# Altium footprint library IC.PcbLib: 28 footprints (part 1 of 2)
Each footprint in its own frame and in the unit in brackets; x right, y up, seen from the top. Pads: shape width x height; smd on the part's side, far side on the other; paste and mask are expansions set on the pad; w line width, h text height; cw(c..) or ccw(c..) is an arc to the next point about the centre after c.
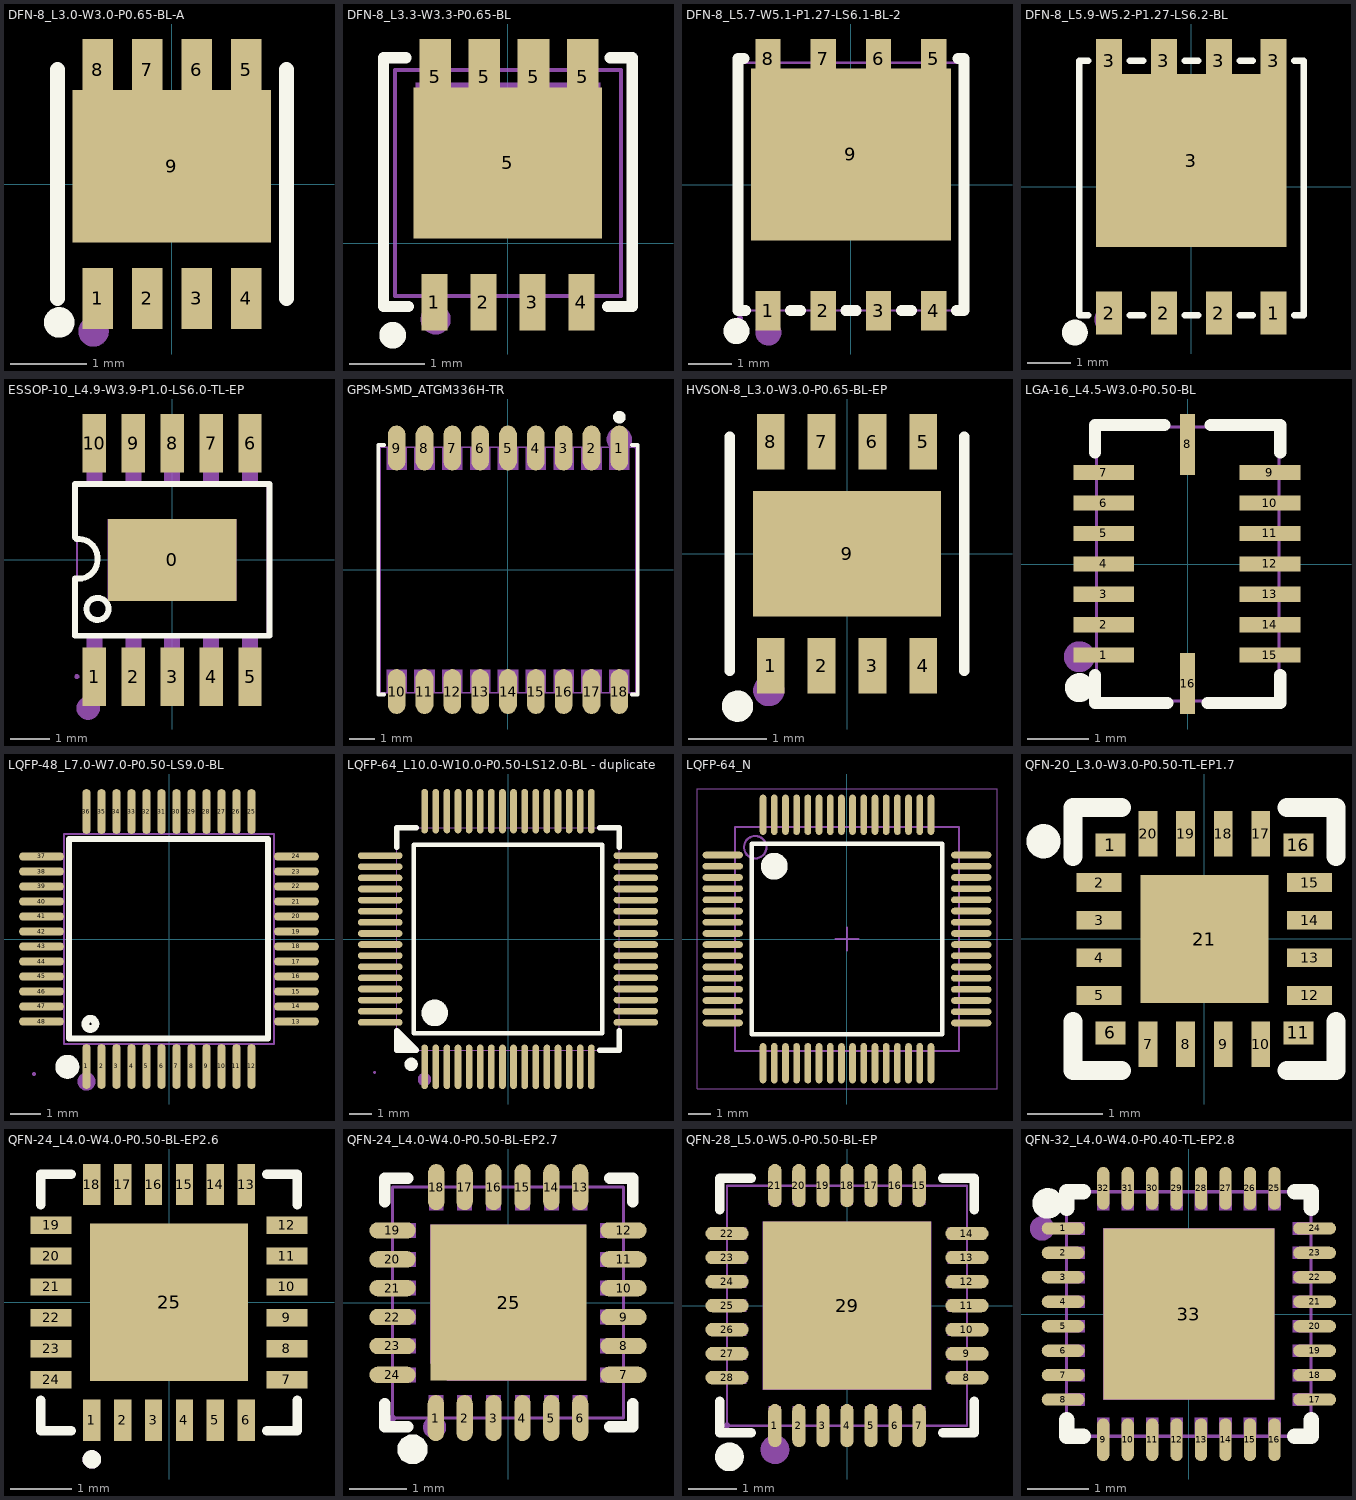
[diagram p0: the footprints below, top view; thin cyan lines are the x and y axes]

## DFN-8_L3.0-W3.0-P0.65-BL-A [mm]
pads (9):
  rect 0.4x0.8 smd: 1(-0.975,-1.5) 2(-0.325,-1.5) 3(0.325,-1.5) 4(0.975,-1.5) 5(0.975,1.5) 6(0.325,1.5) 7(-0.325,1.5) 8(-0.975,1.5)
  rect 2.6x2 smd: 9(0,0.233)
Top Overlay:
  circle w0.2: c-1.477,-1.813 r0.1
  lines w0.2: -1.5,-1.5 -1.5,1.5 ; 1.5,-1.5 1.5,1.5
Top Paste:
  region: -1.176,-1.298 -1.176,-1.098 0.524,-1.098 0.524,-1.298
  region: -1.177,-1.097 0.524,-1.097 0.524,-1.902 0.125,-1.902 0.125,-1.296 -0.124,-1.296 -0.124,-1.899 -0.525,-1.899 -0.525,-1.296 -0.777,-1.296 -0.777,-1.899 -1.175,-1.899 -1.175,-1.329
  region: 1.3,-0.767 -1.3,-0.767 -1.3,1.233 -1.175,1.233 -1.175,1.9 -0.775,1.9 -0.775,1.233 -0.525,1.233 -0.525,1.9 -0.126,1.9 -0.126,1.233 0.125,1.233 0.125,1.9 0.525,1.9 0.525,1.233 0.775,1.233 0.775,1.9 1.175,1.9 1.175,1.233 1.3,1.233 1.3,1.223
  region: 1.175,-1.9 0.775,-1.9 0.775,-1.1 1.175,-1.1
Top Solder:
  region: -1.176,-1.298 -1.176,-1.098 0.524,-1.098 0.524,-1.298
Mechanical 15:
  circle w0.2: c-1.027,-1.931 r0.1
3D body "User Library-DFN_3x3_8L_EP2_P.STEP": height 0.81, standoff 0, extent -1.55,-1.6 1.55,1.6

## DFN-8_L3.3-W3.3-P0.65-BL [mm]
pads (9):
  rect 0.35x0.75 smd paste+0 mask+0.05: 1(-0.975,-0.78) 2(-0.325,-0.78) 3(0.325,-0.78) 4(0.975,-0.78)
  rect 0.42x1 smd: 5(-0.965,2.21) 5(-0.313,2.21) 5(0.339,2.21) 5(0.991,2.21)
  rect 2.5x2 smd: 5(0,1.067)
Top Overlay:
  circle w0.254: c-1.53,-1.219 r0.05
  lines w0.1: -1.65,-0.838 -1.65,2.462 ; 1.65,-0.838 1.651,0.484 1.65,2.462
  lines w0.15: -1.353,2.462 -1.65,2.462 -1.65,-0.838 -1.324,-0.838 ; 1.324,-0.838 1.65,-0.838 1.65,2.462 1.357,2.462
Mechanical 6:
  circle w0.2: c-0.96,-1.009 r0.1
Mechanical 15:
  region: -1.44,-0.838 -1.44,-0.813 -1.475,-0.778 -1.525,-0.778 -1.56,-0.813 -1.56,-0.838 -1.56,-0.863 -1.525,-0.898 -1.475,-0.898 -1.44,-0.863
  region: -1.222,0.201 -1.222,2.129 -1.125,2.129 -1.125,2.43 -0.825,2.43 -0.825,2.129 -0.475,2.129 -0.475,2.43 -0.175,2.43 -0.175,2.129 0.175,2.129 0.175,2.43 0.475,2.43 0.475,2.129 0.825,2.129 0.825,2.43 1.125,2.43 1.125,2.129 1.226,2.129 1.226,0.201 -1.222,0.201
  region: -1.125,-0.438 -0.825,-0.438 -0.825,-0.838 -1.125,-0.838
  region: -0.475,-0.438 -0.175,-0.438 -0.175,-0.838 -0.475,-0.838
  region: 0.175,-0.438 0.475,-0.438 0.475,-0.838 0.175,-0.838
  region: 0.825,-0.438 1.125,-0.438 1.125,-0.838 0.825,-0.838
  lines w0.051: -1.5,-0.7 -1.5,2.3 1.5,2.3 1.5,-0.7 -1.5,-0.7
3D body "User Library-DFN_3x3_8L_EP2_P.STEP": height 0.81, standoff 0, extent -1.55,-0.787 1.55,2.413

## DFN-8_L5.7-W5.1-P1.27-LS6.1-BL-2 [mm]
pads (9):
  rect 0.58x0.9 smd paste-100 mask+0.051: 1(-1.905,-2.9) 2(-0.635,-2.9) 3(0.635,-2.9) 4(1.905,-2.9) 5(1.905,2.9) 6(0.635,2.9) 7(-0.635,2.9) 8(-1.905,2.9)
  rect 4.6x3.95 smd paste-100 mask+0.051: 9(0,0.695)
Top Overlay:
  circle w0.3: c-2.632,-3.367 r0.15
  lines w0.25: -2.6,-0.897 -2.6,-2.895 -2.429,-2.895 ; -2.6,-0.032 -2.6,2.905 -2.463,2.905 -2.5,2.905 ; -1.391,-2.895 -1.159,-2.895 ; -0.121,-2.895 0.121,-2.895 ; 1.159,-2.895 1.391,-2.895 ; 2.429,-2.895 2.6,-2.895 2.6,-0.897 ; 2.5,2.905 2.463,2.905 2.6,2.905 2.6,-0.032
  lines w0.254: -2.6,-0.897 -2.6,-0.032 ; 2.6,-1.169 2.6,-0.032
Top Paste:
  region: -2.3,-1.28 -2.3,2.67 -2.195,2.67 -2.195,3.35 -1.615,3.35 -1.615,2.67 -0.925,2.67 -0.925,3.35 -0.345,3.35 -0.345,2.67 0.345,2.67 0.345,3.35 0.925,3.35 0.925,2.67 1.615,2.67 1.615,3.35 2.195,3.35 2.195,2.67 2.3,2.67 2.3,-1.28 -2.3,-1.28
  region: -1.615,-2.45 -1.615,-3.35 -2.195,-3.35 -2.195,-2.45
  region: -0.345,-2.45 -0.345,-3.35 -0.925,-3.35 -0.925,-2.45
  region: 0.925,-2.45 0.925,-3.35 0.345,-3.35 0.345,-2.45
  region: 2.195,-2.45 2.195,-3.35 1.615,-3.35 1.615,-2.45
Bottom Paste:
  region: -1.877,2.272 -1.877,-0.882 1.877,-0.882 1.877,2.272
Mechanical 6:
  circle w0.3: c-1.9,-3.4 r0.15
Mechanical 15:
  region: -2.105,2.98 -1.705,2.98 -1.705,2.43 -2.105,2.43
  region: -0.835,2.98 -0.435,2.98 -0.435,2.43 -0.835,2.43
  region: 0.435,2.98 0.835,2.98 0.835,2.43 0.435,2.43
  region: 1.705,2.98 2.105,2.98 2.105,2.43 1.705,2.43
  region: -2.1,2.545 2.1,2.545 2.1,-1.155 -2.1,-1.155
  region: -1.705,-3.07 -2.105,-3.07 -2.105,-2.52 -1.705,-2.52
  region: -0.435,-3.07 -0.835,-3.07 -0.835,-2.52 -0.435,-2.52
  region: 0.835,-3.07 0.435,-3.07 0.435,-2.52 0.835,-2.52
  region: 2.105,-3.07 1.705,-3.07 1.705,-2.52 2.105,-2.52
  region: -2.49,-3.07 -2.49,-3.045 -2.525,-3.01 -2.575,-3.01 -2.61,-3.045 -2.61,-3.07 -2.61,-3.095 -2.575,-3.13 -2.525,-3.13 -2.49,-3.095
  lines w0.051: -2.55,-2.895 2.55,-2.895 2.55,2.805 -2.55,2.805 -2.55,-2.895
3D body "User Library-DFN5x6_SO8FL.STEP": height 1.13, standoff 0, extent -2.6,-3.094 2.55,3.056

## DFN-8_L5.9-W5.2-P1.27-LS6.2-BL [mm]
pads (9):
  rect 0.6x1 smd: 1(1.905,-2.925) 2(-1.905,-2.925) 2(-0.635,-2.925) 2(0.635,-2.925) 3(-1.905,2.925) 3(-0.635,2.925) 3(0.635,2.925) 3(1.905,2.925)
  rect 4.41x4 smd: 3(0,0.61)
Top Overlay:
  circle w0.3: c-2.7,-3.375 r0.15
  lines w0.152: -2.385,-2.975 -2.6,-2.975 -2.6,2.925 -2.385,2.925 ; -1.425,-2.975 -1.115,-2.975 ; -1.425,2.925 -1.115,2.925 ; -0.155,-2.975 0.155,-2.975 ; -0.155,2.925 0.155,2.925 ; 1.115,-2.975 1.425,-2.975 ; 1.115,2.925 1.425,2.925 ; 2.385,-2.975 2.6,-2.975 2.6,2.925 2.385,2.925
Top Paste:
  region: -2.205,-3.425 -1.605,-3.425 -1.605,-2.425 -2.205,-2.425
  region: -0.935,-3.425 -0.335,-3.425 -0.335,-2.425 -0.935,-2.425
  region: 0.335,-3.425 0.935,-3.425 0.935,-2.425 0.335,-2.425
  region: 1.605,-3.425 2.205,-3.425 2.205,-2.425 1.605,-2.425
  region: 2.205,3.425 1.605,3.425 1.605,2.61 0.935,2.61 0.935,3.425 0.335,3.425 0.335,2.61 -0.335,2.61 -0.335,3.425 -0.935,3.425 -0.935,2.61 -1.605,2.61 -1.605,3.425 -2.205,3.425 -2.205,-1.39 2.205,-1.39
Mechanical 15:
  circle w0.3: c-1.95,-3.075 r0.15
3D body "User Library-DFN5x6_SO8FL.STEP": height 1.13, standoff 0, extent -2.575,-3.094 2.575,3.056

## ESSOP-10_L4.9-W3.9-P1.0-LS6.0-TL-EP [mm]
pads (11):
  rect 3.3x2.1 smd paste+0 mask+0.05: 0(0,0)
  rect 0.6x1.5 smd paste+0 mask+0.05: 1(-2,-3) 2(-1,-3) 3(0,-3) 4(1,-3) 5(2,-3) 6(2,3) 7(1,3) 8(0,3) 9(-1,3) 10(-2,3)
Top Overlay:
  circle w0.15: c-1.92,-1.26 r0.284
  lines w0.15: -2.5,-1.95 -2.5,-0.48 -2.4,-0.48 ccw(c-2.4,0) -1.92,0 ccw(c-2.416,0.044) -2.46,0.54 -2.5,0.58 -2.5,0.82 -2.5,1.95 2.5,1.95 2.5,-1.95 -2.5,-1.95
Mechanical 6:
  circle w0.3: c-2.159,-3.81 r0.15
Mechanical 15:
  region: -2.39,-3 -2.39,-2.975 -2.425,-2.94 -2.475,-2.94 -2.51,-2.975 -2.51,-3 -2.51,-3.025 -2.475,-3.06 -2.425,-3.06 -2.39,-3.025
  region: -2.2,-2.39 -2.2,-1.94 -1.8,-1.94 -1.8,-2.39
  region: -2.2,-3 -2.2,-2.38 -1.8,-2.38 -1.8,-3
  region: -1.2,-2.39 -1.2,-1.94 -0.8,-1.94 -0.8,-2.39
  region: -1.2,-3 -1.2,-2.38 -0.8,-2.38 -0.8,-3
  region: -0.2,-2.39 -0.2,-1.94 0.2,-1.94 0.2,-2.39
  region: -0.2,-3 -0.2,-2.38 0.2,-2.38 0.2,-3
  region: 0.8,-2.39 0.8,-1.94 1.2,-1.94 1.2,-2.39
  region: 0.8,-3 0.8,-2.38 1.2,-2.38 1.2,-3
  region: 1.8,-2.39 1.8,-1.94 2.2,-1.94 2.2,-2.39
  region: 1.8,-3 1.8,-2.38 2.2,-2.38 2.2,-3
  region: 1.8,1.94 1.8,2.39 2.2,2.39 2.2,1.94
  region: 1.8,2.38 1.8,3 2.2,3 2.2,2.38
  region: 0.8,1.94 0.8,2.39 1.2,2.39 1.2,1.94
  region: 0.8,2.38 0.8,3 1.2,3 1.2,2.38
  region: -0.2,1.94 -0.2,2.39 0.2,2.39 0.2,1.94
  region: -0.2,2.38 -0.2,3 0.2,3 0.2,2.38
  region: -1.2,1.94 -1.2,2.39 -0.8,2.39 -0.8,1.94
  region: -1.2,2.38 -1.2,3 -0.8,3 -0.8,2.38
  region: -2.2,1.94 -2.2,2.39 -1.8,2.39 -1.8,1.94
  region: -2.2,2.38 -2.2,3 -1.8,3 -1.8,2.38
  region: 1.65,-1.05 -1.65,-1.05 -1.65,1.05 1.65,1.05
  lines w0.051: -2.45,-1.95 -2.45,1.95 2.45,1.95 2.45,-1.95 -2.45,-1.95
3D body "User Library-ssop10.step": height 1.35, standoff -0.21, extent -2.45,-3 2.45,3

## GPSM-SMD_ATGM336H-TR [mm]
pads (18):
  oval 0.7x1.773 smd paste+0 mask+0.051: 1(4.4,4.811) 2(3.3,4.811) 3(2.2,4.811) 4(1.1,4.811) 5(0,4.811) 6(-1.1,4.811) 7(-2.2,4.811) 8(-3.3,4.811) 9(-4.4,4.811) 10(-4.4,-4.812) 11(-3.3,-4.812) 12(-2.2,-4.812) 13(-1.1,-4.812) 14(0,-4.812) 15(1.1,-4.812) 16(2.2,-4.812) 17(3.3,-4.812) 18(4.4,-4.812)
Top Overlay:
  circle w0.25: c4.4,6.03 r0.125
  lines w0.152: -4.898,-4.926 -5.126,-4.926 -5.126,4.926 -4.898,4.926 ; 4.898,-4.926 5.126,-4.926 5.126,4.926 4.898,4.926
Mechanical 6:
  circle w0.5: c4.4,5.15 r0.25
Mechanical 15:
  region: 4.8,3.95 4,3.95 4,4.85 4.8,4.85
  region: 3.7,3.95 2.9,3.95 2.9,4.85 3.7,4.85
  region: 2.6,3.95 1.8,3.95 1.8,4.85 2.6,4.85
  region: 1.5,3.95 0.7,3.95 0.7,4.85 1.5,4.85
  region: 0.4,3.95 -0.4,3.95 -0.4,4.85 0.4,4.85
  region: -0.7,3.95 -1.5,3.95 -1.5,4.85 -0.7,4.85
  region: -1.8,3.95 -2.6,3.95 -2.6,4.85 -1.8,4.85
  region: -2.9,3.95 -3.7,3.95 -3.7,4.85 -2.9,4.85
  region: -4,3.95 -4.8,3.95 -4.8,4.85 -4,4.85
  region: -4,-4.85 -4.8,-4.85 -4.8,-3.95 -4,-3.95
  region: -2.9,-4.85 -3.7,-4.85 -3.7,-3.95 -2.9,-3.95
  region: -1.8,-4.85 -2.6,-4.85 -2.6,-3.95 -1.8,-3.95
  region: -0.7,-4.85 -1.5,-4.85 -1.5,-3.95 -0.7,-3.95
  region: 0.4,-4.85 -0.4,-4.85 -0.4,-3.95 0.4,-3.95
  region: 1.5,-4.85 0.7,-4.85 0.7,-3.95 1.5,-3.95
  region: 2.6,-4.85 1.8,-4.85 1.8,-3.95 2.6,-3.95
  region: 3.7,-4.85 2.9,-4.85 2.9,-3.95 3.7,-3.95
  region: 4.8,-4.85 4,-4.85 4,-3.95 4.8,-3.95
  region: 5.11,4.85 5.11,4.875 5.075,4.91 5.025,4.91 4.99,4.875 4.99,4.85 4.99,4.825 5.025,4.79 5.075,4.79 5.11,4.825
  lines w0.051: -5.05,-4.85 -5.05,4.85 5.05,4.85 5.05,-4.85 -5.05,-4.85
3D body "U1.step": height 2.3, standoff 0, extent -5.05,-4.86 5.05,4.86

## HVSON-8_L3.0-W3.0-P0.65-BL-EP [mil]
pads (9):
  rect 14x28 smd: 1(-38.39,-56.4) 2(-12.79,-56.4) 3(12.79,-56.4) 4(38.39,-56.4) 5(38.39,56.4) 6(12.79,56.4) 7(-12.79,56.4) 8(-38.39,56.4)
  rect 94.49x62.99 smd: 9(0,0)
Top Overlay:
  circle w7.87: c-55.12,-76.77 r3.94
  lines w5.08: -59.05,-59.05 -59.05,59.05 ; 59.05,-59.05 59.05,59.05
Mechanical 15:
  circle w7.87: c-39.37,-68.9 r3.94
3D body "3D_PCB1_2022-07-08 v1.step": height 32.45, standoff -1.01, extent -59.05,-59 59.05,59.89

## LGA-16_L4.5-W3.0-P0.50-BL [mm]
pads (16):
  rect 1x0.25 smd paste+0 mask+0.051: 1(-1.378,-1.498) 2(-1.378,-0.998) 3(-1.378,-0.498) 4(-1.378,0.002) 5(-1.378,0.502) 6(-1.378,1.002) 7(-1.378,1.502) 9(1.352,1.502) 10(1.352,1.002) 11(1.352,0.502) 12(1.352,0.002) 13(1.352,-0.498) 14(1.352,-0.998) 15(1.352,-1.498)
  rect 0.25x1 smd paste+0 mask+0.051: 8(0,1.966) 16(0,-1.966)
Top Overlay:
  circle w0.254: c-1.778,-2.032 r0.112
  lines w0.2: -1.524,-1.827 -1.524,-2.286 -0.329,-2.286 ; -1.524,1.831 -1.524,2.159 -1.524,2.286 -0.381,2.286 ; 0.329,-2.286 1.524,-2.286 1.524,-1.827 ; 0.381,2.286 1.524,2.286 1.524,1.831
Mechanical 6:
  circle w0.254: c-1.778,-1.524 r0.127
Mechanical 15:
  region: -1.44,-2.25 -1.44,-2.225 -1.475,-2.19 -1.525,-2.19 -1.56,-2.225 -1.56,-2.25 -1.56,-2.275 -1.525,-2.31 -1.475,-2.31 -1.44,-2.275
  region: -0.9,-1.398 -0.9,-1.598 -1.4,-1.598 -1.4,-1.398
  region: -0.9,-0.898 -0.9,-1.098 -1.4,-1.098 -1.4,-0.898
  region: -0.9,-0.398 -0.9,-0.598 -1.4,-0.598 -1.4,-0.398
  region: -0.9,0.102 -0.9,-0.098 -1.4,-0.098 -1.4,0.102
  region: -0.9,0.602 -0.9,0.402 -1.4,0.402 -1.4,0.602
  region: -0.9,1.102 -0.9,0.902 -1.4,0.902 -1.4,1.102
  region: -0.9,1.602 -0.9,1.402 -1.4,1.402 -1.4,1.602
  region: 0.1,1.65 -0.1,1.65 -0.1,2.15 0.1,2.15
  region: 0.9,1.402 0.9,1.602 1.4,1.602 1.4,1.402
  region: 0.9,0.902 0.9,1.102 1.4,1.102 1.4,0.902
  region: 0.9,0.402 0.9,0.602 1.4,0.602 1.4,0.402
  region: 0.9,-0.098 0.9,0.102 1.4,0.102 1.4,-0.098
  region: 0.9,-0.598 0.9,-0.398 1.4,-0.398 1.4,-0.598
  region: 0.9,-1.098 0.9,-0.898 1.4,-0.898 1.4,-1.098
  region: 0.9,-1.598 0.9,-1.398 1.4,-1.398 1.4,-1.598
  region: -0.1,-1.65 0.1,-1.65 0.1,-2.15 -0.1,-2.15
  lines w0.051: -1.5,-2.25 -1.5,2.25 1.5,2.25 1.5,-2.25 -1.5,-2.25
3D body "User Library-LGA-16_l45w30h095.step": height 0.95, standoff -0.01, extent -1.5,-2.25 1.5,2.25

## LQFP-48_L7.0-W7.0-P0.50-LS9.0-BL [mm]
pads (48):
  oval 0.27x1.5 smd mask+0.05: 1(-2.75,-4.25) 2(-2.25,-4.25) 3(-1.75,-4.25) 4(-1.25,-4.25) 5(-0.75,-4.25) 6(-0.25,-4.25) 7(0.25,-4.25) 8(0.75,-4.25) 9(1.25,-4.25) 10(1.75,-4.25) 11(2.25,-4.25) 12(2.75,-4.25) 25(2.75,4.25) 26(2.25,4.25) 27(1.75,4.25) 28(1.25,4.25) 29(0.75,4.25) 30(0.25,4.25) 31(-0.25,4.25) 32(-0.75,4.25) 33(-1.25,4.25) 34(-1.75,4.25) 35(-2.25,4.25) 36(-2.75,4.25)
  oval 1.5x0.27 smd mask+0.05: 13(4.25,-2.75) 14(4.25,-2.25) 15(4.25,-1.75) 16(4.25,-1.25) 17(4.25,-0.75) 18(4.25,-0.25) 19(4.25,0.25) 20(4.25,0.75) 21(4.25,1.25) 22(4.25,1.75) 23(4.25,2.25) 24(4.25,2.75) 37(-4.25,2.75) 38(-4.25,2.25) 39(-4.25,1.75) 40(-4.25,1.25) 41(-4.25,0.75) 42(-4.25,0.25) 43(-4.25,-0.25) 44(-4.25,-0.75) 45(-4.25,-1.25) 46(-4.25,-1.75) 47(-4.25,-2.25) 48(-4.25,-2.75)
Top Overlay:
  circle w0.254: c-2.62,-2.83 r0.17
  lines w0.2: -2.896,3.34 3.302,3.34 3.302,-3.315 -3.327,-3.315 -3.327,3.34 -2.565,3.34
  lines w0.4: -3.39,-4.06 ccw(c-3.389,-4.26) -3.387,-4.06
Mechanical 6:
  circle w0.3: c-2.75,-4.75 r0.15
Mechanical 15:
  drawing of 101 lines, arcs and shapes, not listed
3D body "User Library-LQFP48_Grid_0_5.STEP": height 1.6, standoff 0, extent -4.5,-4.5 4.5,4.5

## LQFP-64_L10.0-W10.0-P0.50-LS12.0-BL - duplicate [mm]
pads (64):
  oval 0.3x2 smd mask+0.051: 1(-3.75,-5.75) 2(-3.25,-5.75) 3(-2.75,-5.75) 4(-2.25,-5.75) 5(-1.75,-5.75) 6(-1.25,-5.75) 7(-0.75,-5.75) 8(-0.25,-5.75) 9(0.25,-5.75) 10(0.75,-5.75) 11(1.25,-5.75) 12(1.75,-5.75) 13(2.25,-5.75) 14(2.75,-5.75) 15(3.25,-5.75) 16(3.75,-5.75) 33(3.75,5.75) 34(3.25,5.75) 35(2.75,5.75) 36(2.25,5.75) 37(1.75,5.75) 38(1.25,5.75) 39(0.75,5.75) 40(0.25,5.75) 41(-0.25,5.75) 42(-0.75,5.75) 43(-1.25,5.75) 44(-1.75,5.75) 45(-2.25,5.75) 46(-2.75,5.75) 47(-3.25,5.75) 48(-3.75,5.75)
  oval 2x0.3 smd mask+0.051: 17(5.75,-3.75) 18(5.75,-3.25) 19(5.75,-2.75) 20(5.75,-2.25) 21(5.75,-1.75) 22(5.75,-1.25) 23(5.75,-0.75) 24(5.75,-0.25) 25(5.75,0.25) 26(5.75,0.75) 27(5.75,1.25) 28(5.75,1.75) 29(5.75,2.25) 30(5.75,2.75) 31(5.75,3.25) 32(5.75,3.75) 49(-5.75,3.75) 50(-5.75,3.25) 51(-5.75,2.75) 52(-5.75,2.25) 53(-5.75,1.75) 54(-5.75,1.25) 55(-5.75,0.75) 56(-5.75,0.25) 57(-5.75,-0.25) 58(-5.75,-0.75) 59(-5.75,-1.25) 60(-5.75,-1.75) 61(-5.75,-2.25) 62(-5.75,-2.75) 63(-5.75,-3.25) 64(-5.75,-3.75)
Top Overlay:
  region: -4.131,-5 -5,-4.131 -5,-5
  lines w0.2: -4.25,-4.25 -4.25,4.25 4.25,4.25 4.25,-4.25 -4.25,-4.25
  lines w0.254: -5,4.131 -5,5 -4.131,5 ; 4.131,-5 5,-5 5,-4.131 ; 4.131,5 5,5 5,4.131 ; -5,-4.131 -5,-4.131 ; -5,-4.131 -4.131,-5 -5,-5 -5,-4.131
  lines w0.3: -4.361,-5.49 ccw(c-4.36,-5.64) -4.359,-5.49
  lines w0.6: -3.299,-3.025 ccw(c-3.297,-3.325) -3.294,-3.025
Mechanical 6:
  circle w0.3: c-3.76,-6.32 r0.15
Mechanical 15:
  drawing of 133 lines, arcs and shapes, not listed
3D body "User Library-LQFP64-2.STEP": height 1.62, standoff -0.01, extent -6.072,-6.072 6.072,6.072

## LQFP-64_N [mm] "Thin QFP, 64-Leads, Body 10x10mm, Pitch 0.5mm, IPC Medium Density"
height 1.6
pads (64):
  oval 1.8x0.3 smd: 1(-5.55,3.75) 2(-5.55,3.25) 3(-5.55,2.75) 4(-5.55,2.25) 5(-5.55,1.75) 6(-5.55,1.25) 7(-5.55,0.75) 8(-5.55,0.25) 9(-5.55,-0.25) 10(-5.55,-0.75) 11(-5.55,-1.25) 12(-5.55,-1.75) 13(-5.55,-2.25) 14(-5.55,-2.75) 15(-5.55,-3.25) 16(-5.55,-3.75) 33(5.55,-3.75) 34(5.55,-3.25) 35(5.55,-2.75) 36(5.55,-2.25) 37(5.55,-1.75) 38(5.55,-1.25) 39(5.55,-0.75) 40(5.55,-0.25) 41(5.55,0.25) 42(5.55,0.75) 43(5.55,1.25) 44(5.55,1.75) 45(5.55,2.25) 46(5.55,2.75) 47(5.55,3.25) 48(5.55,3.75)
  oval 0.3x1.8 smd: 17(-3.75,-5.55) 18(-3.25,-5.55) 19(-2.75,-5.55) 20(-2.25,-5.55) 21(-1.75,-5.55) 22(-1.25,-5.55) 23(-0.75,-5.55) 24(-0.25,-5.55) 25(0.25,-5.55) 26(0.75,-5.55) 27(1.25,-5.55) 28(1.75,-5.55) 29(2.25,-5.55) 30(2.75,-5.55) 31(3.25,-5.55) 32(3.75,-5.55) 49(3.75,5.55) 50(3.25,5.55) 51(2.75,5.55) 52(2.25,5.55) 53(1.75,5.55) 54(1.25,5.55) 55(0.75,5.55) 56(0.25,5.55) 57(-0.25,5.55) 58(-0.75,5.55) 59(-1.25,5.55) 60(-1.75,5.55) 61(-2.25,5.55) 62(-2.75,5.55) 63(-3.25,5.55) 64(-3.75,5.55)
Top Overlay:
  circle w0.6: c-3.25,3.25 r0.3
  lines w0.2: -4.25,-4.25 4.25,-4.25 4.25,4.25 -4.25,4.25 -4.25,-4.25
Mechanical 13:
  circle w0.1: c-4.1,4.1 r0.5
  lines w0.1: -5,-5 5,-5 5,5 -5,5 -5,-5
Mechanical 15:
  lines w0.05: -6.7,-6.7 6.7,-6.7 6.7,6.7 -6.7,6.7 -6.7,-6.7
  lines w0.1: -0.5,0 0.5,0 ; 0,-0.5 0,0.5
3D body "PCB1.stp": height 1.6, standoff 0.04, extent -5.991,-5.991 5.984,5.984

## QFN-20_L3.0-W3.0-P0.50-TL-EP1.7 [mm]
pads (21):
  rect 0.4x0.3 smd: 1(-1.25,1.25) 6(-1.25,-1.25) 11(1.25,-1.25) 16(1.25,1.25)
  rect 0.6x0.25 smd: 2(-1.4,0.75) 3(-1.4,0.25) 4(-1.4,-0.25) 5(-1.4,-0.75) 12(1.4,-0.75) 13(1.4,-0.25) 14(1.4,0.25) 15(1.4,0.75)
  rect 0.25x0.6 smd: 7(-0.75,-1.4) 8(-0.25,-1.4) 9(0.25,-1.4) 10(0.75,-1.4) 17(0.75,1.4) 18(0.25,1.4) 19(-0.25,1.4) 20(-0.75,1.4)
  rect 1.7x1.7 smd: 21(0,0)
Top Overlay:
  circle w0.254: c-2.14,1.3 r0.1
  lines w0.254: -1.75,-1.101 -1.75,-1.75 -1.101,-1.75 ; -1.75,1.101 -1.75,1.716 ; -1.75,1.75 -1.101,1.75 ; 1.101,-1.75 1.75,-1.75 1.75,-1.101 ; 1.101,1.75 1.75,1.75 1.75,1.101
3D body "User Library-QFN-20.STEP": height 0.62, standoff -0.08, extent -1.5,-1.5 1.5,1.5

## QFN-24_L4.0-W4.0-P0.50-BL-EP2.6 [mm]
pads (25):
  rect 0.28x0.665 smd: 1(-1.25,-1.907) 2(-0.75,-1.907) 3(-0.25,-1.907) 4(0.25,-1.907) 5(0.75,-1.907) 6(1.25,-1.907) 13(1.25,1.907) 14(0.75,1.907) 15(0.25,1.907) 16(-0.25,1.907) 17(-0.75,1.907) 18(-1.25,1.907)
  rect 0.665x0.28 smd: 7(1.907,-1.25) 8(1.907,-0.75) 9(1.907,-0.25) 10(1.907,0.25) 11(1.907,0.75) 12(1.907,1.25) 19(-1.907,1.25) 20(-1.907,0.75) 21(-1.907,0.25) 22(-1.907,-0.25) 23(-1.907,-0.75) 24(-1.907,-1.25)
  rect 2.55x2.55 smd: 25(0,0)
Top Overlay:
  circle w0.15: c-1.25,-2.54 r0.075
  lines w0.152: -2.076,-1.58 -2.076,-2.076 -1.58,-2.076 ; -2.076,1.58 -2.076,2.076 -1.58,2.076 ; 1.58,-2.076 2.076,-2.076 2.076,-1.58 ; 1.58,2.076 2.076,2.076 2.076,1.58
Top Paste:
  region: -1.575,-1.39 -1.575,-1.11 -2.24,-1.11 -2.24,-1.39
  region: -1.575,-0.89 -1.575,-0.61 -2.24,-0.61 -2.24,-0.89
  region: -1.575,-0.39 -1.575,-0.11 -2.24,-0.11 -2.24,-0.39
  region: -1.575,0.11 -1.575,0.39 -2.24,0.39 -2.24,0.11
  region: -1.575,0.61 -1.575,0.89 -2.24,0.89 -2.24,0.61
  region: -1.575,1.11 -1.575,1.39 -2.24,1.39 -2.24,1.11
  region: -1.39,2.24 -1.39,1.575 -1.11,1.575 -1.11,2.24
  region: -0.89,2.24 -0.89,1.575 -0.61,1.575 -0.61,2.24
  region: -0.39,2.24 -0.39,1.575 -0.11,1.575 -0.11,2.24
  region: 0.11,2.24 0.11,1.575 0.39,1.575 0.39,2.24
  region: 0.61,2.24 0.61,1.575 0.89,1.575 0.89,2.24
  region: 1.11,2.24 1.11,1.575 1.39,1.575 1.39,2.24
  region: 2.24,1.11 2.24,1.39 1.575,1.39 1.575,1.11
  region: 2.24,0.61 2.24,0.89 1.575,0.89 1.575,0.61
  region: 2.24,0.11 2.24,0.39 1.575,0.39 1.575,0.11
  region: 2.24,-0.39 2.24,-0.11 1.575,-0.11 1.575,-0.39
  region: 2.24,-0.89 2.24,-0.61 1.575,-0.61 1.575,-0.89
  region: 2.24,-1.39 2.24,-1.11 1.575,-1.11 1.575,-1.39
  region: 1.11,-2.24 1.11,-1.575 1.39,-1.575 1.39,-2.24
  region: 0.61,-2.24 0.61,-1.575 0.89,-1.575 0.89,-2.24
  region: 0.11,-2.24 0.11,-1.575 0.39,-1.575 0.39,-2.24
  region: -0.39,-2.24 -0.39,-1.575 -0.11,-1.575 -0.11,-2.24
  region: -0.89,-2.24 -0.89,-1.575 -0.61,-1.575 -0.61,-2.24
  region: -1.39,-2.24 -1.39,-1.575 -1.11,-1.575 -1.11,-2.24
  region: -1.02,1.02 1.02,1.02 1.02,-1.02 -1.02,-1.02
Mechanical 15:
  circle w0.15: c-1.25,-2.54 r0.075
3D body "User Library-QFN 24 4x4.step": height -0.41, standoff -1.31, extent -2.002,-2.002 2.002,2.002

## QFN-24_L4.0-W4.0-P0.50-BL-EP2.7 [mm]
pads (25):
  oval 0.28x0.8 smd mask+0.05: 1(-1.25,-2) 2(-0.75,-2) 3(-0.25,-2) 4(0.25,-2) 5(0.75,-2) 6(1.25,-2) 13(1.25,2) 14(0.75,2) 15(0.25,2) 16(-0.25,2) 17(-0.75,2) 18(-1.242,2)
  oval 0.8x0.28 smd mask+0.05: 7(2,-1.25) 8(2,-0.75) 9(2,-0.25) 10(2,0.25) 11(2,0.75) 12(2,1.25) 19(-2,1.25) 20(-2,0.75) 21(-2,0.25) 22(-2,-0.25) 23(-2,-0.75) 24(-2,-1.25)
  rect 2.7x2.7 smd mask+0.05: 25(0.012,0)
Top Overlay:
  region: -1.397,-2.539 -1.397,-2.471 -1.466,-2.353 -1.584,-2.286 -1.72,-2.286 -1.837,-2.354 -1.905,-2.472 -1.905,-2.608 -1.837,-2.726 -1.72,-2.794 -1.584,-2.794 -1.466,-2.727 -1.397,-2.609 -1.397,-2.541
  lines w0.2: -2.138,-1.75 -2.138,-2.15 -1.738,-2.15 ; -2.138,1.75 -2.138,2.15 -1.738,2.15 ; 1.763,-2.15 2.163,-2.15 2.163,-1.75 ; 1.763,2.15 2.163,2.15 2.163,1.75
Top Paste:
  drawing of 25 lines, arcs and shapes, not listed
Mechanical 6:
  circle w0.2: c-1.27,-2.159 r0.1
Mechanical 15:
  region: -1.94,-2 -1.94,-1.975 -1.975,-1.94 -2.025,-1.94 -2.06,-1.975 -2.06,-2 -2.06,-2.025 -2.025,-2.06 -1.975,-2.06 -1.94,-2.025
  region: -1.35,-1.05 -1.35,1.35 1.35,1.35 1.35,-1.35 -1.05,-1.35
  region: -2,-1.375 -2,-1.125 -1.6,-1.125 -1.6,-1.375
  region: -2,-0.875 -2,-0.625 -1.6,-0.625 -1.6,-0.875
  region: -2,-0.375 -2,-0.125 -1.6,-0.125 -1.6,-0.375
  region: -2,0.125 -2,0.375 -1.6,0.375 -1.6,0.125
  region: -2,0.625 -2,0.875 -1.6,0.875 -1.6,0.625
  region: -2,1.125 -2,1.375 -1.6,1.375 -1.6,1.125
  region: -1.367,1.6 -1.367,2 -1.117,2 -1.117,1.6
  region: -0.875,1.6 -0.875,2 -0.625,2 -0.625,1.6
  region: -0.375,1.6 -0.375,2 -0.125,2 -0.125,1.6
  region: 0.125,1.6 0.125,2 0.375,2 0.375,1.6
  region: 0.625,1.6 0.625,2 0.875,2 0.875,1.6
  region: 1.125,1.6 1.125,2 1.375,2 1.375,1.6
  region: 1.6,1.125 1.6,1.375 2,1.375 2,1.125
  region: 1.6,0.625 1.6,0.875 2,0.875 2,0.625
  region: 1.6,0.125 1.6,0.375 2,0.375 2,0.125
  region: 1.6,-0.375 1.6,-0.125 2,-0.125 2,-0.375
  region: 1.6,-0.875 1.6,-0.625 2,-0.625 2,-0.875
  region: 1.6,-1.375 1.6,-1.125 2,-1.125 2,-1.375
  region: 1.125,-2 1.125,-1.6 1.375,-1.6 1.375,-2
  region: 0.625,-2 0.625,-1.6 0.875,-1.6 0.875,-2
  region: 0.125,-2 0.125,-1.6 0.375,-1.6 0.375,-2
  region: -0.375,-2 -0.375,-1.6 -0.125,-1.6 -0.125,-2
  region: -0.875,-2 -0.875,-1.6 -0.625,-1.6 -0.625,-2
  region: -1.375,-2 -1.375,-1.6 -1.125,-1.6 -1.125,-2
  lines w0.051: -2,-2 -2,2 2,2 2,-2 -2,-2
3D body "User Library-mpu-6050_qfn-24.step": height 0.88, standoff -0.02, extent -2.013,-2.013 2.027,2.027

## QFN-28_L5.0-W5.0-P0.50-BL-EP [mil]
pads (29):
  oval 11x35.4 smd mask+2: 1(-59.1,-98.4) 2(-39.4,-98.4) 3(-19.7,-98.4) 4(0,-98.4) 5(19.7,-98.4) 6(39.4,-98.4) 7(59.1,-98.4) 15(59.1,98.4) 16(39.4,98.4) 17(19.7,98.4) 18(0,98.4) 19(-19.7,98.4) 20(-39.4,98.4) 21(-59.1,98.4)
  oval 35.4x11 smd mask+2: 8(98.4,-59.1) 9(98.4,-39.4) 10(98.4,-19.7) 11(98.4,0) 12(98.4,19.7) 13(98.4,39.4) 14(98.4,59.1) 22(-98.4,59.1) 23(-98.4,39.4) 24(-98.4,19.7) 25(-98.4,0) 26(-98.4,-19.7) 27(-98.4,-39.4) 28(-98.4,-59.1)
  rect 137.8x137.8 smd mask+2: 29(0,0)
Top Overlay:
  lines w7.9: -104.3,-78.7 -104.3,-104.3 -78.7,-104.3 ; -104.3,78.7 -104.3,104.3 -78.7,104.3 ; 78.7,-104.3 104.3,-104.3 104.3,-78.7 ; 78.7,104.3 104.3,104.3 104.3,78.7
  lines w11.8: -96.51,-118.1 ccw(c-96.46,-124.01) -96.41,-118.1
Mechanical 6:
  circle w11.8: c-59.1,-118.1 r5.9
Mechanical 15:
  drawing of 34 lines, arcs and shapes, not listed
3D body "User Library-QFN28-0_5.STEP": height 39.37, standoff 0, extent -98.43,-98.42 98.42,98.43

## QFN-32_L4.0-W4.0-P0.40-TL-EP2.8 [mm]
pads (33):
  oval 0.7x0.2 smd mask+0.051: 1(-2.057,1.4) 2(-2.057,1) 3(-2.057,0.6) 4(-2.057,0.2) 5(-2.057,-0.2) 6(-2.057,-0.6) 7(-2.057,-1) 8(-2.057,-1.4) 17(2.057,-1.4) 18(2.057,-1) 19(2.057,-0.6) 20(2.057,-0.2) 21(2.057,0.2) 22(2.057,0.6) 23(2.057,1) 24(2.057,1.4)
  oval 0.2x0.7 smd mask+0.051: 9(-1.4,-2.057) 10(-1,-2.057) 11(-0.6,-2.057) 12(-0.2,-2.057) 13(0.2,-2.057) 14(0.6,-2.057) 15(1,-2.057) 16(1.4,-2.057) 25(1.4,2.057) 26(1,2.057) 27(0.6,2.057) 28(0.2,2.057) 29(-0.2,2.057) 30(-0.6,2.057) 31(-1,2.057) 32(-1.4,2.057)
  rect 2.8x2.8 smd mask+0.051: 33(0,0)
Top Overlay:
  circle w0.25: c-2.309,1.809 r0.125
  lines w0.254: -2,-1.731 -2,-2 -1.731,-2 ; -2,1.731 -2,2 -1.731,2 ; 1.731,-2 2,-2 2,-1.731 ; 1.731,2 2,2 2,1.731
Top Paste:
  drawing of 33 lines, arcs and shapes, not listed
Mechanical 6:
  circle w0.2: c-2.4,1.4 r0.1
Mechanical 15:
  drawing of 38 lines, arcs and shapes, not listed
3D body "User Library-QFN32-0_4.STEP": height 0.95, standoff -0.05, extent -2.005,-2.005 2.005,2.005